# EAGLE library part 621020242921 (library Wurth_Elektronik2)
WR-PHD 2.00mm Dual SMT Socket Header, 20 Pins=>Code : Con_BTB_SHD_2.00_2_621020242921 <http://katalog.we-online.de/media/thumbs2/eican/thb_Con_BTB_SHD_2.00_2_6210xx242921_pf2.jpg> Details see: http://katalog.we-online.de/en/em/621_0xx_242_921 Created 2014-06-03, Karrer Zheng 2014 (C) Würth Elektronik
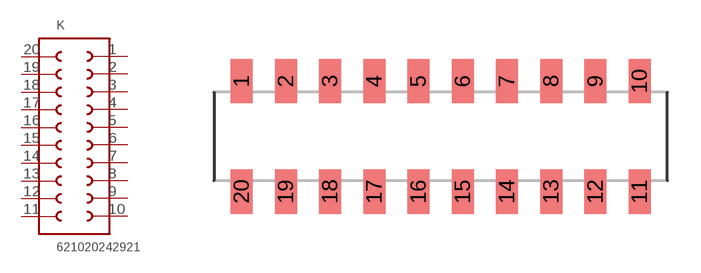
[diagram p271: symbol with the pads of 621020242921; footprint 621020242921]

Designator prefix K

## 621020242921  [621020242921]
1  1  pas
2  2  pas
3  3  pas
4  4  pas
5  5  pas
6  6  pas
7  7  pas
8  8  pas
9  9  pas
10  10  pas
11  11  pas
12  12  pas
13  13  pas
14  14  pas
15  15  pas
16  16  pas
17  17  pas
18  18  pas
19  19  pas
20  20  pas

## Footprint 621020242921 (pad centres in mm)
WR-PHD 2.00mm Dual SMT Socket Header, 20 Pins
smd 1 x 2: 1 -9,2.5; 2 -7,2.5; 3 -5,2.5; 4 -3,2.5; 5 -1,2.5; 6 1,2.5; 7 3,2.5; 8 5,2.5; 9 7,2.5; 10 9,2.5; 11 9,-2.5; 12 7,-2.5; 13 5,-2.5; 14 3,-2.5; 15 1,-2.5; 16 -1,-2.5; 17 -3,-2.5; 18 -5,-2.5; 19 -7,-2.5; 20 -9,-2.5